# EAGLE library part DM3BT-DSF-PEJS (library con-sd-card)
CONN MICRO SD CARD PUSH-PUSH R/A
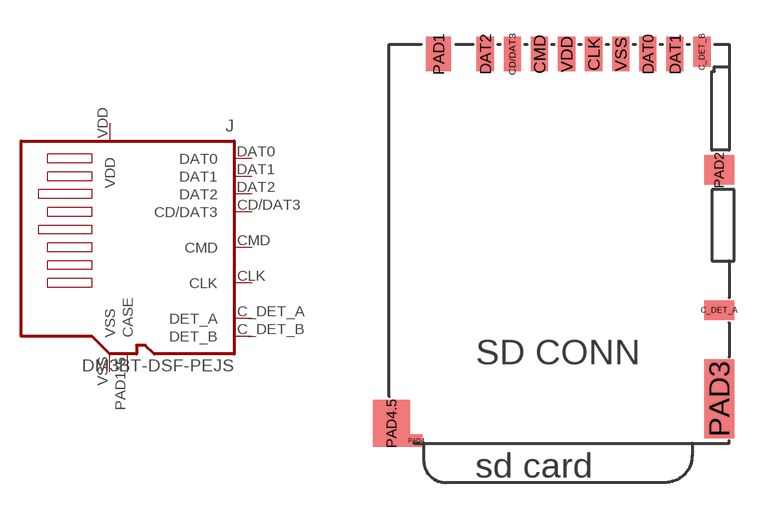
[diagram p6: symbol with the pads of DM3BT; footprint DM3BT]

Designator prefix J

## DM3BT-DSF-PEJS (DIGIKEY: HR1942CT-ND)  [DM3BT]
C_DET_A  DET_A
C_DET_B  DET_B
CD/DAT3  CD/DAT3
CLK  CLK
CMD  CMD
DAT0  DAT0
DAT1  DAT1
DAT2  DAT2
PAD1  CASE
PAD2  CASE
PAD3  CASE
PAD4  CASE
PAD4.5  CASE
VDD  VDD
VSS  VSS

## Footprint DM3BT (pad centres in mm)
smd 1.2 x 0.8: C_DET_A 9.5,-9.7
smd 0.7 x 1.2: C_DET_B 8.8,0.8
smd 0.7 x 1.4: CD/DAT3 1.1,0.7; CLK 4.4,0.7; CMD 2.2,0.7; DAT0 6.6,0.7; DAT1 7.7,0.7; DAT2 0,0.7; VDD 3.3,0.7; VSS 5.5,0.7
smd 1 x 1.4: PAD1 -1.9,0.7
smd 1.2 x 1.2: PAD2 9.5,-4
smd 1.2 x 3.2: PAD3 9.5,-13.3
smd 0.5 x 0.5: PAD4 -2.8,-15
smd 1.5 x 1.9: PAD4.5 -3.8,-14.3